# EAGLE library part SI7005 (library Kas-Sensors)
Si7005 Humidity sensor ​Si7005 Digital Relative Humidity and Temperature Sensor
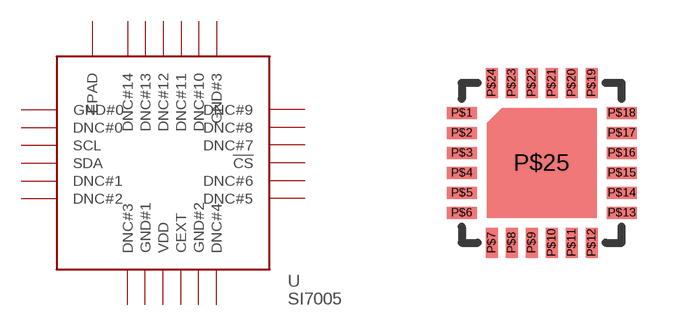
[diagram p16: symbol with the pads of QFN-24(4X4)-CENTER-PAD; footprint QFN-24(4X4)-CENTER-PAD]

Designator prefix U

## SI7005  [QFN-24(4X4)-CENTER-PAD]
P$1  GND#0
P$2  DNC#0  nc
P$3  SCL
P$4  SDA
P$5  DNC#1  nc
P$6  DNC#2  nc
P$7  DNC#3  nc
P$8  GND#1
P$9  VDD
P$10  CEXT
P$11  GND#2
P$12  DNC#4  nc
P$13  DNC#5  nc
P$14  DNC#6  nc
P$15  !CS
P$16  DNC#7  nc
P$17  DNC#8  nc
P$18  DNC#9  nc
P$19  GND#3
P$20  DNC#10  nc
P$21  DNC#11  nc
P$22  DNC#12  nc
P$23  DNC#13  nc
P$24  DNC#14  nc
P$25  EPAD

## Footprint QFN-24(4X4)-CENTER-PAD (pad centres in mm)
smd 0.75 x 0.3: P$1 -2,1.25; P$2 -2,0.75; P$3 -2,0.25; P$4 -2,-0.25; P$5 -2,-0.75; P$6 -2,-1.25; P$13 2,-1.25; P$14 2,-0.75; P$15 2,-0.25; P$16 2,0.25; P$17 2,0.75; P$18 2,1.25
smd 0.3 x 0.75: P$7 -1.25,-2; P$8 -0.75,-2; P$9 -0.25,-2; P$10 0.25,-2; P$11 0.75,-2; P$12 1.25,-2; P$19 1.25,2; P$20 0.75,2; P$21 0.25,2; P$22 -0.25,2; P$23 -0.75,2; P$24 -1.25,2
smd 1.27 x 0.635: P$25 0,0